# Altium integrated library WE-FCL_rev15b.intlib: 5 symbols
Pins are listed as number, name and electrical type; pins without a type are passive.

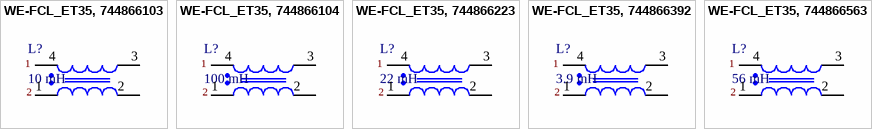
[diagram p0: symbols WE-FCL_ET35, 744866103 to WE-FCL_ET35, 744866563]

## WE-FCL_ET35, 744866103
designator L?, comment 10 mH
WE-FCL Common Mode Power Line Choke, Inductance = 10 mH; partNo: 744866103; Manufacturer: Wurth Elektronik; Inductance: 10 mH; ComponentLink1Description: Manufacturer; ComponentLink1URL: http://www.we-online.de; Created by: Baojun Chen; Created Date: Nov.2015; ComponentLink2Description: Datasheet; ComponentLink2URL: http://katalog.we-online.de/pbs/datasheet/744866103.pdf
footprint WE-FCL_ET35
pins: 1, 2, 3, 4

## WE-FCL_ET35, 744866104
designator L?, comment 100 mH
WE-FCL Common Mode Power Line Choke, Inductance = 100 mH; partNo: 744866104; Manufacturer: Wurth Elektronik; Inductance: 100 mH; ComponentLink1Description: Manufacturer; ComponentLink1URL: http://www.we-online.de; Created by: Baojun Chen; Created Date: Nov.2015; ComponentLink2Description: Datasheet; ComponentLink2URL: http://katalog.we-online.de/pbs/datasheet/744866104.pdf
footprint WE-FCL_ET35
pins: 1, 2, 3, 4

## WE-FCL_ET35, 744866223
designator L?, comment 22 mH
WE-FCL Common Mode Power Line Choke, Inductance = 22 mH; partNo: 744866223; Manufacturer: Wurth Elektronik; Inductance: 22 mH; ComponentLink1Description: Manufacturer; ComponentLink1URL: http://www.we-online.de; Created by: Baojun Chen; Created Date: Nov.2015; ComponentLink2Description: Datasheet; ComponentLink2URL: http://katalog.we-online.de/pbs/datasheet/744866223.pdf
footprint WE-FCL_ET35
pins: 1, 2, 3, 4

## WE-FCL_ET35, 744866392
designator L?, comment 3.9 mH
WE-FCL Common Mode Power Line Choke, Inductance = 3.9 mH; partNo: 744866392; Manufacturer: Wurth Elektronik; Inductance: 3.9 mH; ComponentLink1Description: Manufacturer; ComponentLink1URL: http://www.we-online.de; Created by: Baojun Chen; Created Date: Nov.2015; ComponentLink2Description: Datasheet; ComponentLink2URL: http://katalog.we-online.de/pbs/datasheet/744866392.pdf
footprint WE-FCL_ET35
pins: 1, 2, 3, 4

## WE-FCL_ET35, 744866563
designator L?, comment 56 mH
WE-FCL Common Mode Power Line Choke, Inductance = 56 mH; partNo: 744866563; Manufacturer: Wurth Elektronik; Inductance: 56 mH; ComponentLink1Description: Manufacturer; ComponentLink1URL: http://www.we-online.de; Created by: Baojun Chen; Created Date: Nov.2015; ComponentLink2Description: Datasheet; ComponentLink2URL: http://katalog.we-online.de/pbs/datasheet/744866563.pdf
footprint WE-FCL_ET35
pins: 1, 2, 3, 4